# EAGLE library part ISD1900 (library geoffculp)
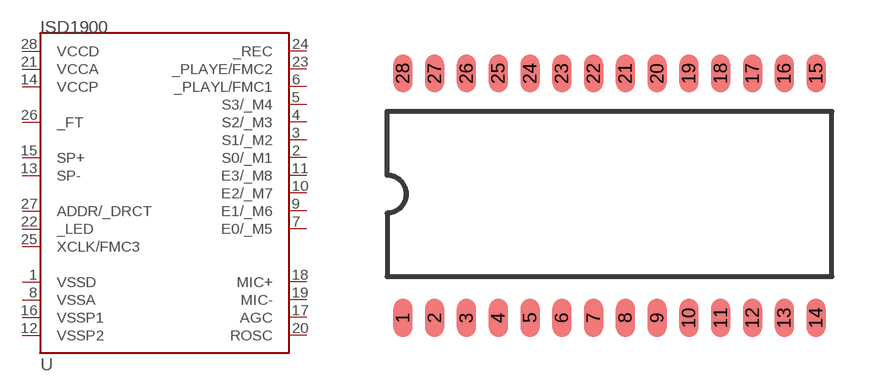
[diagram p271: symbol with the pads of SO-28W; footprint SO-28W]

Designator prefix U

## ISD1900ISD1932  [SO-28W]
1  VSSD
2  S0/_M1
3  S1/_M2
4  S2/_M3
5  S3/_M4
6  _PLAYL/FMC1
7  E0/_M5
8  VSSA
9  E1/_M6
10  E2/_M7
11  E3/_M8
12  VSSP2
13  SP-
14  VCCP
15  SP+
16  VSSP1
17  AGC
18  MIC+
19  MIC-
20  ROSC
21  VCCA
22  _LED
23  _PLAYE/FMC2
24  _REC
25  XCLK/FMC3
26  _FT
27  ADDR/_DRCT
28  VCCD

## Footprint SO-28W (pad centres in mm)
Small Outline Wide Plastic Gull Wing 300-mil body, package type SO
smd 0.762 x 1.524: 1 -8.255,-4.953; 2 -6.985,-4.953; 3 -5.715,-4.953; 4 -4.445,-4.953; 5 -3.175,-4.953; 6 -1.905,-4.953; 7 -0.635,-4.953; 8 0.635,-4.953; 9 1.905,-4.953; 10 3.175,-4.953; 11 4.445,-4.953; 12 5.715,-4.953; 13 6.985,-4.953; 14 8.255,-4.953; 15 8.255,4.826; 16 6.985,4.826; 17 5.715,4.826; 18 4.445,4.826; 19 3.175,4.826; 20 1.905,4.826; 21 0.635,4.826; 22 -0.635,4.826; 23 -1.905,4.826; 24 -3.175,4.826; 25 -4.445,4.826; 26 -5.715,4.826; 27 -6.985,4.826; 28 -8.255,4.826